# Altium schematic symbol library Conn,RJ-45,Thru.Schlib: 1 symbol
Pins are listed as number, name and electrical type; pins without a type are passive.

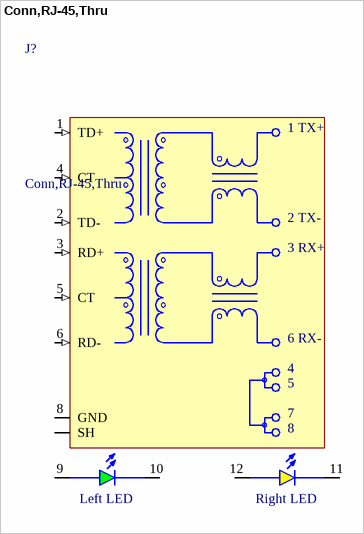
[diagram p0: symbol Conn,RJ-45,Thru]

## Conn,RJ-45,Thru
designator J?
1 Port RJ45Through Hole 10/100 Base-TX, AutoMDIX
pins: 0 SH, 1 TD+ (in), 2 TD- (in), 3 RD+ (in), 4 CT (in), 5 CT (in), 6 RD- (in), 8 GND, 9 LL1, 10 LL2, 11 RL2, 12 RL1
text: 1 TX+; 2 TX-; 3 RX+; 6 RX-; 7; Left LED; Right LED